# EAGLE library part H1102 (library trafo-pulse)
PULSE SMT Ethernet transformer RX 1:1, TX 1:1, Central Tap
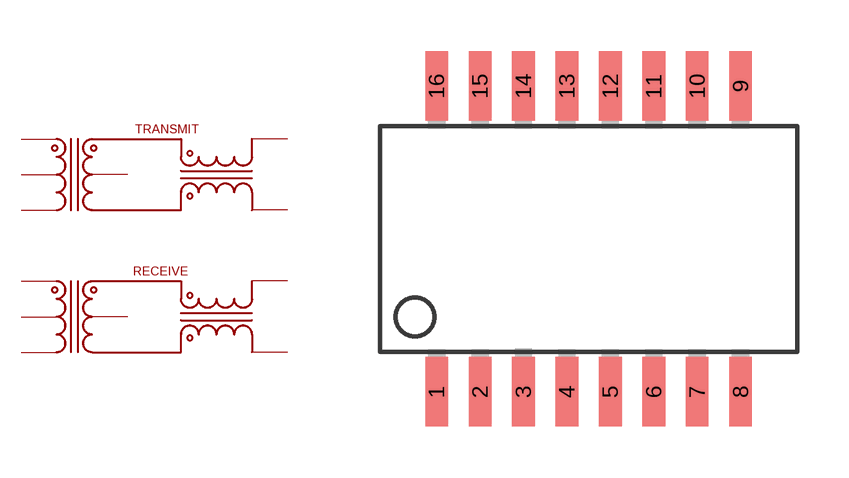
[diagram p0: symbol with the pads of H11XX; footprint H11XX]

Designator prefix -

## H1102  [H11XX]
1  1
2  2
3  3
6  6
7  7
8  8
9  9
10  10
11  11
14  14
15  15
16  16

## Footprint H11XX (pad centres in mm)
SMT PULSE Ethernet transformer package
smd 0.66 x 2.032: 1 -4.445,-4.47; 2 -3.175,-4.47; 3 -1.905,-4.47; 4 -0.635,-4.47; 5 0.635,-4.47; 6 1.905,-4.47; 7 3.175,-4.47; 8 4.445,-4.47; 9 4.445,4.47; 10 3.175,4.47; 11 1.905,4.47; 12 0.635,4.47; 13 -0.635,4.47; 14 -1.905,4.47; 15 -3.175,4.47; 16 -4.445,4.47